# Altium schematic symbol library Switch.SchLib: 10 symbols
Pins are listed as number, name and electrical type; pins without a type are passive.

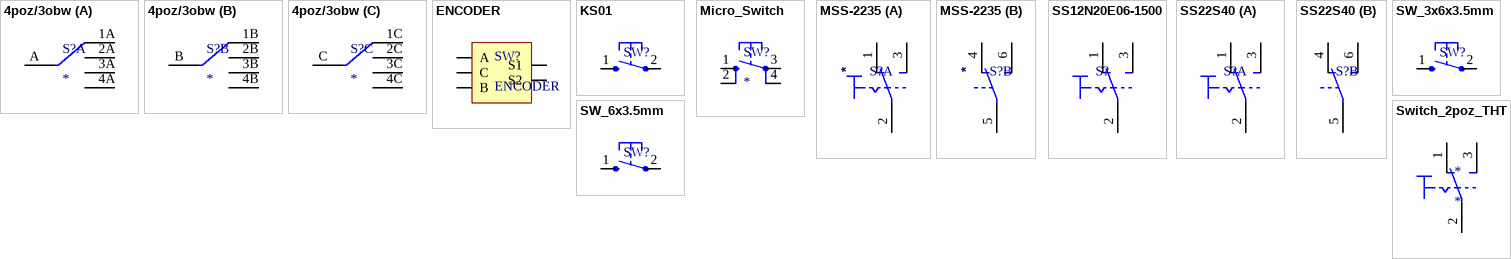
[diagram p0: symbols 4poz/3obw to Switch_2poz_THT]

## 4poz/3obw
designator S?
footprint 4poz/3obw
part A pins: 1A, 2A, 3A, 4A, A
part B pins: 1B, 2B, 3B, 4B, B
part C pins: 1C, 2C, 3C, 4C, C

## ENCODER
designator SW?
EC12E20-24P24C-SW
footprint EC12E20-24P24C-SW
footprint EC12E20-24P24C-SW-Gałka
pins: A, B, C, S1, S2

## KS01
designator SW?  (value not drawn)
Pozycje:2; SPST-NO; 0,01A/35VDC; 1,3N
footprint KS01-B
pins: 1 S, 2 P

## Micro_Switch
designator SW?
footprint tactwitch
footprint tactwitch _SMD
pins: 1 S, 2 S1, 3 P, 4 P1

## MSS-2235
designator S?
footprint MSS-2235
part A pins: 1, 2, 3
part B pins: 4, 5, 6

## SS12N20E06-1500
designator S?  (value not drawn)
SPDT THT
footprint SS12N20E06-1500
pins: 1, 2, 3

## SS22S40
designator S?  (value not drawn)
DPDT SMD
footprint SS22S40
part A pins: 1, 2, 3
part B pins: 4, 5, 6

## SW_3x6x3.5mm
designator SW?  (value not drawn)
footprint 3x6x3.5mm
pins: 1 S, 2 P

## SW_6x3.5mm
designator SW?  (value not drawn)
footprint SW_6x3,5mm
pins: 1 S, 2 P

## Switch_2poz_THT
designator *
footprint Switch_2poz_V
pins: 1, 2, 3